# Altium footprint library PulseG.PcbLib: 1 footprints
Each footprint in its own frame and in the unit in brackets; x right, y up, seen from the top. Pads: shape width x height; smd on the part's side, far side on the other; paste and mask are expansions set on the pad; w line width, h text height; cw(c..) or ccw(c..) is an arc to the next point about the centre after c.
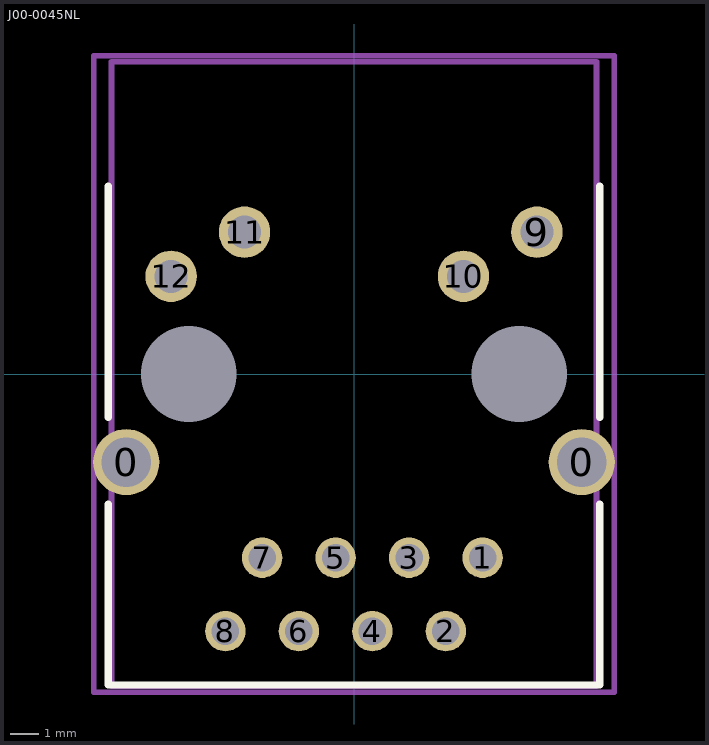
[diagram p0: the footprint, top view; thin cyan lines are the x and y axes]

## J00-0045NL [mil]
pads (16):
  round 90 hole 66.93: 0(-310,-120) 0(310,-120)
  round 55.12 hole 37.4: 1(175,-250) 2(125,-350) 3(75,-250) 4(25,-350) 5(-25,-250) 6(-75,-350) 7(-125,-250) 8(-175,-350)
  round 70 hole 45: 9(249,193) 10(149,133) 11(-149,193) 12(-249,133)
  round 0 hole 130: G(-225,0) G(225,0)
Top Overlay:
  lines w10: -334.65,-177.17 -334.65,-423.23 334.65,-423.23 334.65,-177.17 ; -334.65,-59.06 -334.65,255.91 ; 334.65,-59.06 334.65,255.91
Mechanical 13:
  lines w7.87: -330,-425 330,-425 330,425 -330,425 -330,-425
Mechanical 15:
  lines w7.87: -354.33,-433.07 354.33,-433.07 354.33,433.07 -354.33,433.07 -354.33,-433.07
3D body: height 593.64, standoff -137.2, extent -360.76,-433.85 360.77,425.99